# Altium footprint library CA_CANTHD200P100_H250_R.PcbLib: 1 footprints
Each footprint in its own frame and in the unit in brackets; x right, y up, seen from the top. Pads: shape width x height; smd on the part's side, far side on the other; paste and mask are expansions set on the pad; w line width, h text height; cw(c..) or ccw(c..) is an arc to the next point about the centre after c.
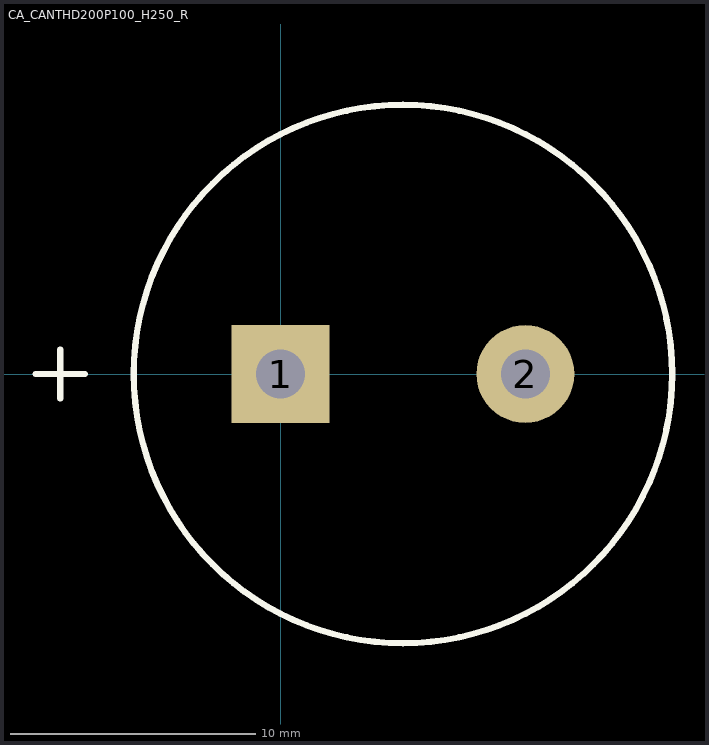
[diagram p0: the footprint, top view; thin cyan lines are the x and y axes]

## CA_CANTHD200P100_H250_R [mm]
pads (2):
  rect 4x4 hole 2: 1(0,0)
  round 4 hole 2: 2(10,0)
Top Overlay:
  circle w0.254: c5,0 r11
  lines w0.254: -10,0 -8,0 ; -9,-1 -9,1
3D body: height 25, standoff 0, extent -5.913,-10.978 16,10.978